# EAGLE library part ACS714_CURRENT_SENSOR (library Taylor)
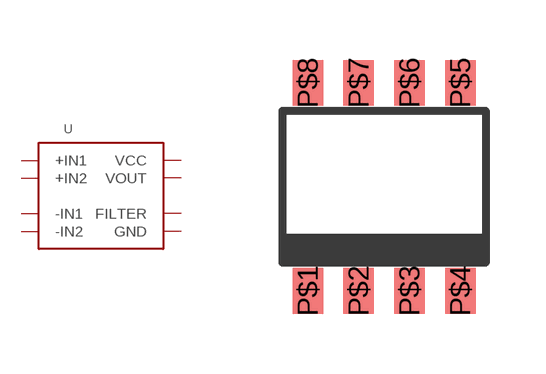
[diagram p7: symbol with the pads of SO-8; footprint SO-8]

Designator prefix -

## ACS714_CURRENT_SENSOR  [SO-8]
P$1  +IN1
P$2  +IN2
P$3  -IN1
P$4  -IN2
P$5  GND
P$6  FILTER
P$7  VOUT
P$8  VCC

## Footprint SO-8 (pad centres in mm)
smd 0.762 x 1.143: P$1 -1.905,-2.603; P$2 -0.635,-2.603; P$3 0.635,-2.603; P$4 1.905,-2.603; P$5 1.905,2.603; P$6 0.635,2.603; P$7 -0.635,2.603; P$8 -1.905,2.603